# Altium schematic symbol library FERRITES.SCHLIB: 2 symbols
Pins are listed as number, name and electrical type; pins without a type are passive.

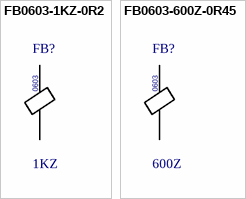
[diagram p0: symbols FB0603-1KZ-0R2 to FB0603-600Z-0R45]

## FB0603-1KZ-0R2
designator FB?, comment value 1KZ  (hidden comment: FB0603)
FERRITE,1KZ@100MHz,0R2DC,0603; Manufacturer 1: MURATA; Manufacturer Part Number 1: BLM18KG102SN1D; LCSC: C160982; Supplier 1: Arrow Electronics; Supplier Part Number 1: BLM18KG102SN1D; MOUSER: 81-BLM18KG102SN1D
footprint FB0603 (FERRITE BEAD 0603 (1608))
pins: 1, 2
text: 0603

## FB0603-600Z-0R45
designator FB?, comment value 600Z  (hidden comment: FB0603)
FERRITE,600Z@100MHz,0R452DC,0603; Manufacturer 1: SUNLORD; Manufacturer Part Number 1: GZ1608D601TF; LCSC: C1002
footprint FB0603 (FERRITE BEAD 0603 (1608))
pins: 1, 2
text: 0603